# EAGLE library part PINHD6 (library senseye)
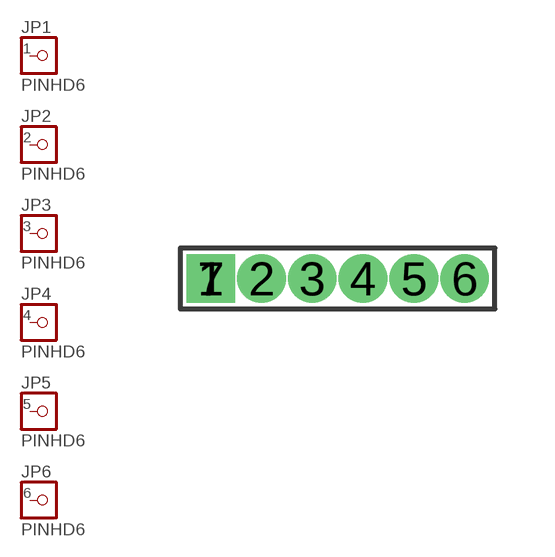
[diagram p8: symbol with the pads of HEADER1X6/0.05IN; footprint HEADER1X6/0.05IN]

Designator prefix JP; gates 1=PINHD 2=PINHD 3=PINHD 4=PINHD 5=PINHD 6=PINHD

## PINHD6  [HEADER1X6/0.05IN]
1  1:1  pas
2  2:1  pas
3  3:1  pas
4  4:1  pas
5  5:1  pas
6  6:1  pas

## Footprint HEADER1X6/0.05IN (pad centres in mm)
drill 0.711 pad 1.016 square: 1 -2.54,0; 7 -2.54,0
drill 0.711 pad 1.016: 2 -1.27,0; 3 0,0; 4 1.27,0; 5 2.54,0; 6 3.81,0